# EAGLE library part MTA13-156 (library con-amp2)
AMP connector
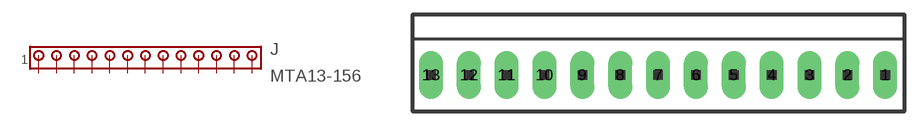
[diagram p118: symbol with the pads of 1X13MTA; footprint 1X13MTA]

Designator prefix J

## MTA13-156  [1X13MTA]
1  1  pas
2  2  pas
3  3  pas
4  4  pas
5  5  pas
6  6  pas
7  7  pas
8  8  pas
9  9  pas
10  10  pas
11  11  pas
12  12  pas
13  13  pas

## Footprint 1X13MTA (pad centres in mm)
AMP MTA connector
drill 1.676 long: 1 23.774,0; 2 19.812,0; 3 15.85,0; 4 11.887,0; 5 7.925,0; 6 3.962,0; 7 0,0; 8 -3.962,0; 9 -7.925,0; 10 -11.887,0; 11 -15.85,0; 12 -19.812,0; 13 -23.774,0